# EAGLE library part AMIS-30600 (library iswba)
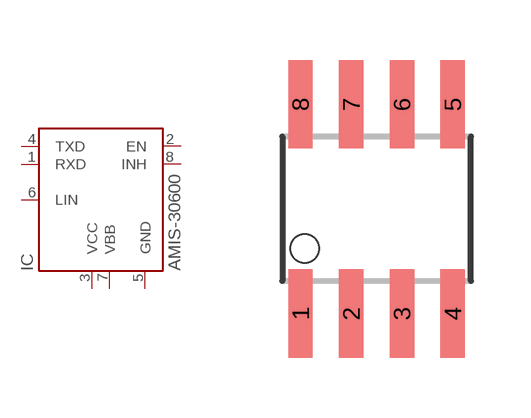
[diagram p1: symbol with the pads of SO-8; footprint SO-8]

Designator prefix IC

## AMIS-30600  [SO-8]
1  RXD  out
2  EN  in
3  VCC  pwr
4  TXD  in
5  GND  pwr
6  LIN
7  VBB  pwr
8  INH  out

## Footprint SO-8 (pad centres in mm)
SOIC-8
smd 0.61 x 2.21: 1 -1.905,-2.616; 2 -0.635,-2.616; 3 0.635,-2.616; 4 1.905,-2.616; 5 1.905,2.616; 6 0.635,2.616; 7 -0.635,2.616; 8 -1.905,2.616